# EAGLE library part DUAL-POT (library dtoy-RF)
Dual POT for audio inital for alps 6mm shaft pot hyl, 2011/5/5 digital toy
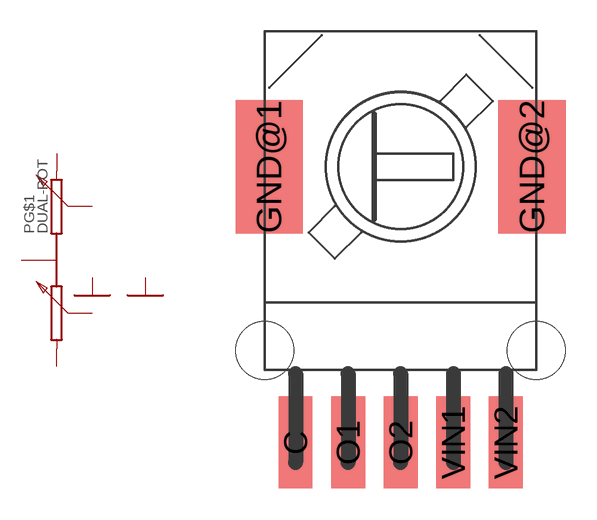
[diagram p11: symbol with the pads of ALPS-607T-PANEL; footprint ALPS-607T-PANEL]

Designator prefix P; gates G$1=DUAL-POT GND@2=GND GND@1=GND

## DUAL-POT-ALPS-607T-P  [ALPS-607T-PANEL]
C  G$1:C  pas
GND@1  GND@1:GND  sup
GND@2  GND@2:GND  sup
O1  G$1:O1  pas
O2  G$1:O2  pas
VIN1  G$1:VIN1  pas
VIN2  G$1:VIN2  pas

## Footprint ALPS-607T-PANEL (pad centres in mm)
ALPS 607t pannel mount
smd 1.635 x 4.445: C -5.08,-13.335; O1 -2.54,-13.335; O2 0,-13.335; VIN1 2.54,-13.335; VIN2 5.08,-13.335
smd 3.251 x 6.452: GND@1 -6.35,0; GND@2 6.35,0
hole 2.8 at -6.56,-8.89
hole 2.8 at 6.56,-8.89
hole 7.3 at 0,0